# Altium footprint library SAMTEC SSW-105-03-T-S.PCBLIB: 1 footprints
Each footprint in its own frame and in the unit in brackets; x right, y up, seen from the top. Pads: shape width x height; smd on the part's side, far side on the other; paste and mask are expansions set on the pad; w line width, h text height; cw(c..) or ccw(c..) is an arc to the next point about the centre after c.
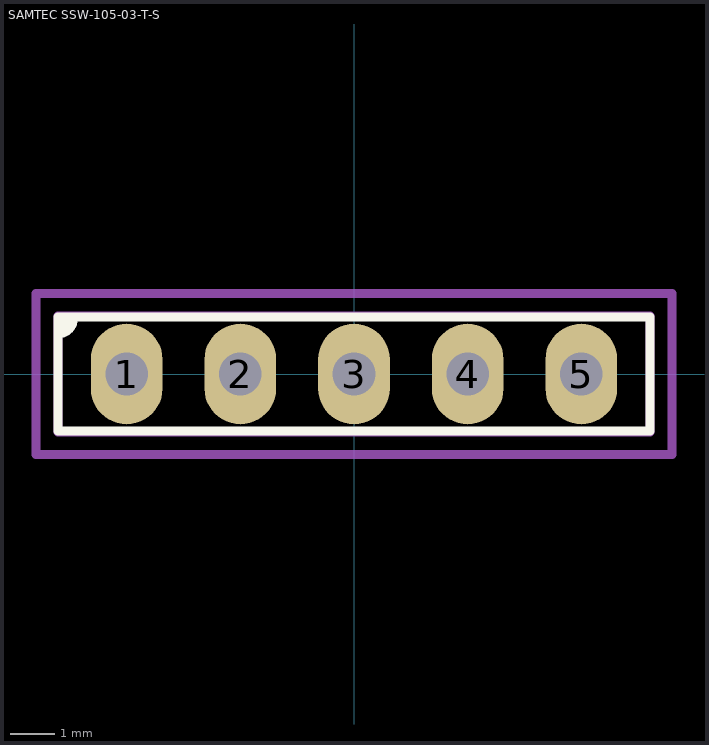
[diagram p0: the footprint, top view; thin cyan lines are the x and y axes]

## SAMTEC SSW-105-03-T-S [mm]
height 8.51
pads (5):
  oval 1.6x2.25 hole 0.95: 1(-5.08,0) 2(-2.54,0) 3(0,0) 4(2.54,0) 5(5.08,0)
Top Overlay:
  region: -6.61,1.27 -6.27,1.27 -6.27,1.1 -6.47,0.9 -6.61,0.9
  lines w0.2: -6.61,0.9 ccw(c-6.61,1.24) -6.27,1.24 -6.27,1.27 ; -6.61,-1.27 -6.61,1.27 6.61,1.27 6.61,-1.27 -6.61,-1.27
Mechanical 13:
  lines w0.2: -6.61,-1.3 6.61,-1.3 6.61,1.3 -6.61,1.3 -6.61,-1.3
Mechanical 15:
  lines w0.2: -0.5,0 0.5,0 ; 0,-0.5 0,0.5 ; -7.11,-1.8 -7.11,1.8 7.11,1.8 7.11,-1.8 -7.11,-1.8
3D body "Samtec-SSW-105-03-T-S.STEP": height 8.51, standoff -10.01, extent -6.604,-1.206 6.604,1.207